# EAGLE library part PAL16L8-7 (library a3640_edu_v0.1)
PAL16L8-7 PARA A3640
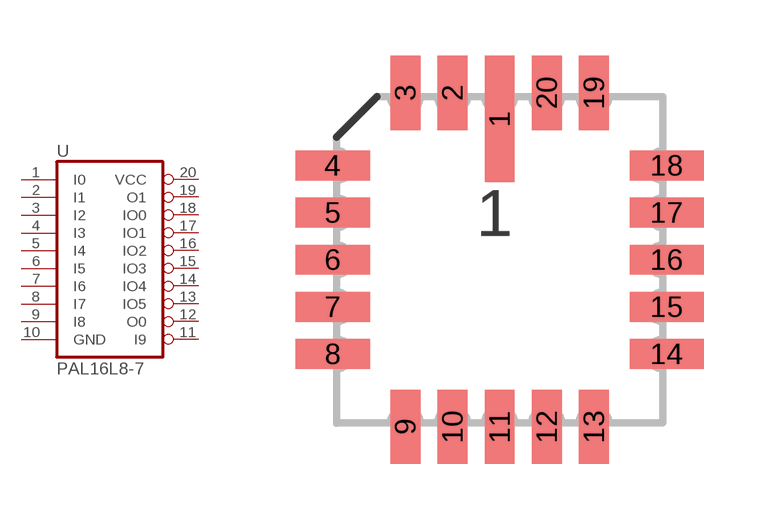
[diagram p3: symbol with the pads of PAL16L8-7; footprint PAL16L8-7]

Designator prefix -

## PAL16L8-7  [PAL16L8-7]
1  I0  in
2  I1  in
3  I2  in
4  I3  in
5  I4  in
6  I5  in
7  I6  in
8  I7  in
9  I8  in
10  GND  in
11  I9
12  O0
13  IO5
14  IO4
15  IO3
16  IO2
17  IO1
18  IO0
19  O1
20  VCC

## Footprint PAL16L8-7 (pad centres in mm)
smd 0.8 x 3.4: 1 0,3.8
smd 0.8 x 2: 2 -1.27,4.5; 3 -2.54,4.5; 9 -2.54,-4.5; 10 -1.27,-4.5; 11 0,-4.5; 12 1.27,-4.5; 13 2.54,-4.5; 19 2.54,4.5; 20 1.27,4.5
smd 2 x 0.8: 4 -4.5,2.54; 5 -4.5,1.27; 6 -4.5,0; 7 -4.5,-1.27; 8 -4.5,-2.54; 14 4.5,-2.54; 15 4.5,-1.27; 16 4.5,0; 17 4.5,1.27; 18 4.5,2.54